# EAGLE library part ATTINY10 (library bytewerk-uc)
8-Bit Microcontroller - 1x QTouch Support - 1x 16-Bit Timer - 1x ADC
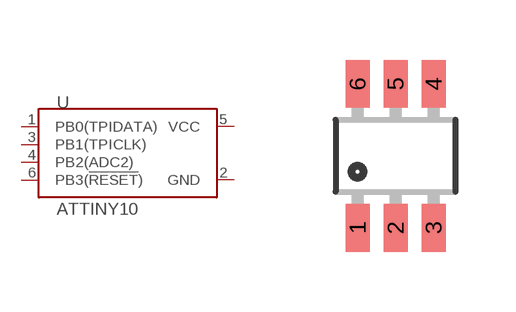
[diagram p6: symbol with the pads of ATTINY10; footprint ATTINY10]

Designator prefix U

## ATTINY10  [ATTINY10]
1  PB0(TPIDATA)
2  GND  pwr
3  PB1(TPICLK)
4  PB2(ADC2)
5  VCC  pwr
6  PB3(!RESET!)

## Footprint ATTINY10 (pad centres in mm)
smd 0.6 x 1.2: 1 -0.95,-1.8; 2 0,-1.8; 3 0.95,-1.8; 4 0.95,1.8; 5 0,1.8; 6 -0.95,1.8